# Altium footprint library YK4410303000G.PcbLib: 1 footprints
Each footprint in its own frame and in the unit in brackets; x right, y up, seen from the top. Pads: shape width x height; smd on the part's side, far side on the other; paste and mask are expansions set on the pad; w line width, h text height; cw(c..) or ccw(c..) is an arc to the next point about the centre after c.
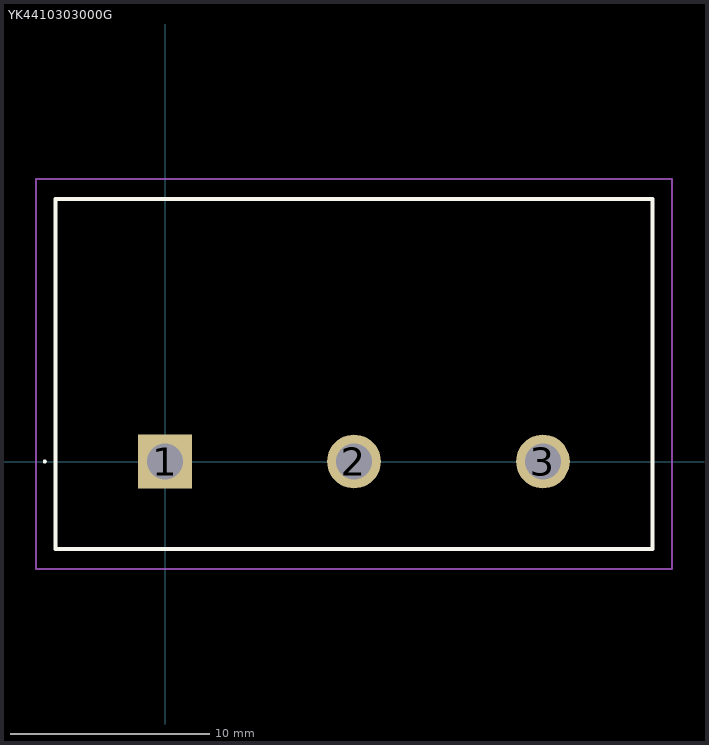
[diagram p0: the footprint, top view; thin cyan lines are the x and y axes]

## YK4410303000G [mm]
pads (3):
  rect 2.7x2.7 hole 1.8: 1(0,0)
  round 2.7 hole 1.8: 2(9.5,0) 3(19,0)
Top Overlay:
  lines w0.1: -6.1,0 cw(c-6.05,0) -6,0 ; -6.1,0 -6.1,0 ; -6.1,0 ccw(c-6.05,0) -6,0 ; -6,0 -6,0
  lines w0.2: -5.5,-4.4 24.5,-4.4 24.5,13.2 -5.5,13.2 -5.5,-4.4
Mechanical 15:
  lines w0.1: -5.5,-4.4 24.5,-4.4 24.5,13.2 -5.5,13.2 -5.5,-4.4
Mechanical 20:
  lines w0.1: -6.5,-5.4 25.5,-5.4 25.5,14.2 -6.5,14.2 -6.5,-5.4